# EAGLE library part CON_M30 (library akita)
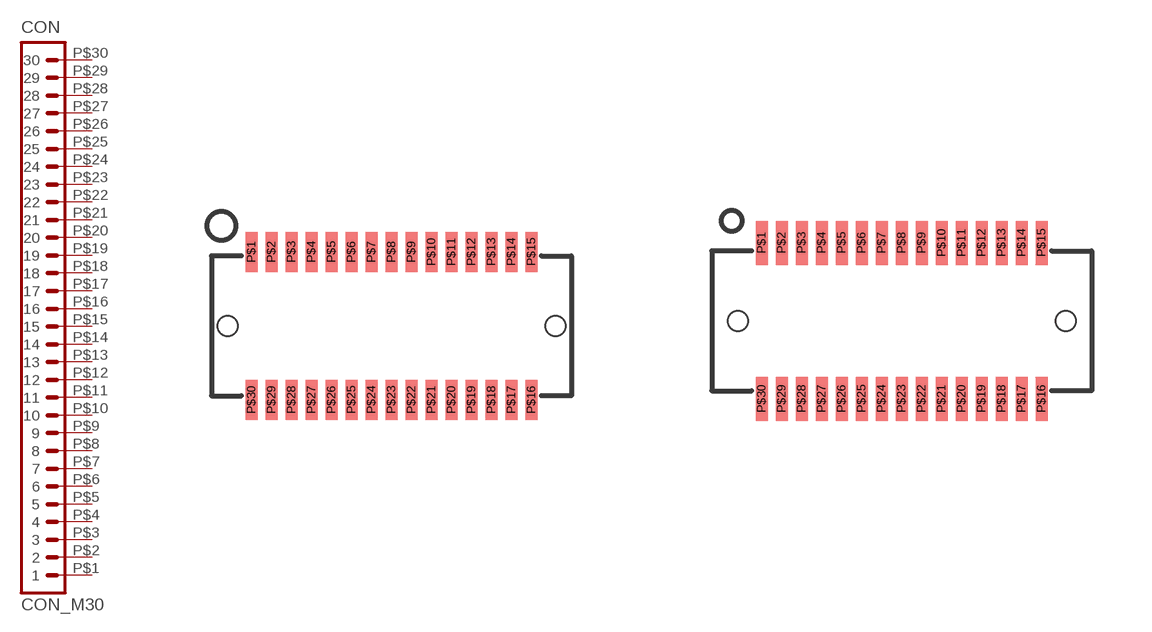
[diagram p96: symbol with the pads of CON_JST-JMCR30R; footprints CON_JST-JMCR30R, CON_JST-JMCS30P]

Designator prefix CON

## CON_M30JMCR30R  [CON_JST-JMCR30R]
P$1  1  pas
P$2  2  pas
P$3  3  pas
P$4  4  pas
P$5  5  pas
P$6  6  pas
P$7  7  pas
P$8  8  pas
P$9  9  pas
P$10  10  pas
P$11  11  pas
P$12  12  pas
P$13  13  pas
P$14  14  pas
P$15  15  pas
P$16  16  pas
P$17  17  pas
P$18  18  pas
P$19  19  pas
P$20  20  pas
P$21  21  pas
P$22  22  pas
P$23  23  pas
P$24  24  pas
P$25  25  pas
P$26  26  pas
P$27  27  pas
P$28  28  pas
P$29  29  pas
P$30  30  pas

## CON_M30JMCR30P  [CON_JST-JMCS30P]
Pads as for CON_JST-JMCR30R

## Footprint CON_JST-JMCR30R (pad centres in mm)
smd 0.3 x 1: P$1 -3.5,1.85; P$2 -3,1.85; P$3 -2.5,1.85; P$4 -2,1.85; P$5 -1.5,1.85; P$6 -1,1.85; P$7 -0.5,1.85; P$8 0,1.85; P$9 0.5,1.85; P$10 1,1.85; P$11 1.5,1.85; P$12 2,1.85; P$13 2.5,1.85; P$14 3,1.85; P$15 3.5,1.85; P$16 3.5,-1.85; P$17 3,-1.85; P$18 2.5,-1.85; P$19 2,-1.85; P$20 1.5,-1.85; P$21 1,-1.85; P$22 0.5,-1.85; P$23 0,-1.85; P$24 -0.5,-1.85; P$25 -1,-1.85; P$26 -1.5,-1.85; P$27 -2,-1.85; P$28 -2.5,-1.85; P$29 -3,-1.85; P$30 -3.5,-1.85
hole 0.5 at 4.1,0
hole 0.5 at -4.1,0

## Footprint CON_JST-JMCS30P (pad centres in mm)
smd 0.3 x 1.1: P$1 -3.5,1.95; P$2 -3,1.95; P$3 -2.5,1.95; P$4 -2,1.95; P$5 -1.5,1.95; P$6 -1,1.95; P$7 -0.5,1.95; P$8 0,1.95; P$9 0.5,1.95; P$10 1,1.95; P$11 1.5,1.95; P$12 2,1.95; P$13 2.5,1.95; P$14 3,1.95; P$15 3.5,1.95; P$16 3.5,-1.95; P$17 3,-1.95; P$18 2.5,-1.95; P$19 2,-1.95; P$20 1.5,-1.95; P$21 1,-1.95; P$22 0.5,-1.95; P$23 0,-1.95; P$24 -0.5,-1.95; P$25 -1,-1.95; P$26 -1.5,-1.95; P$27 -2,-1.95; P$28 -2.5,-1.95; P$29 -3,-1.95; P$30 -3.5,-1.95
hole 0.5 at -4.1,0
hole 0.5 at 4.1,0